# Altium footprint library parts_pcb.PcbLib: 4 footprints
Each footprint in its own frame and in the unit in brackets; x right, y up, seen from the top. Pads: shape width x height; smd on the part's side, far side on the other; paste and mask are expansions set on the pad; w line width, h text height; cw(c..) or ccw(c..) is an arc to the next point about the centre after c.
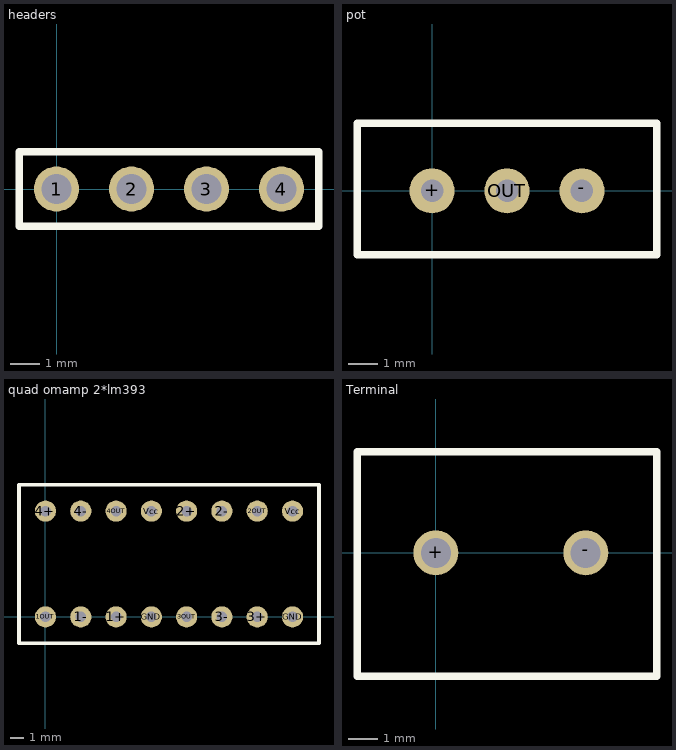
[diagram p0: the footprints below, top view; thin cyan lines are the x and y axes]

## headers [mil]
pads (4):
  round 60 hole 40: 1(0,0) 2(100,0) 3(200,0) 4(300,0)
Top Overlay:
  lines w10: -50,-50 350,-50 350,50 -50,50 -50,-50

## pot [mil]
pads (3):
  round 60 hole 30: +(0,0) -(200,0) OUT(100,0)
Top Overlay:
  lines w10: -100,-85 300,-85 300,90 -100,90 -100,-85

## quad omamp 2*lm393 [mil]
pads (16):
  round 60 hole 30: 1+(200,0) 1-(100,0) 1OUT(0,0) 2+(400,300) 2-(500,300) 2OUT(600,300) 3+(600,0) 3-(500,0) 3OUT(400,0) 4+(0,300) 4-(100,300) 4OUT(200,300) GND(300,0) GND(700,0) Vcc(300,300) Vcc(700,300)
Top Overlay:
  lines w10: -75,-75 775,-75 775,375 -75,375 -75,-75

## Terminal [mil]
pads (2):
  round 60 hole 40: +(0,0) -(200,0)
Top Overlay:
  lines w10: -105,-165 295,-165 295,135 -105,135 -105,-165